# Altium footprint library Posadochnye_mesta.pcblib: 20 footprints (part 2 of 2)
Each footprint in its own frame and in the unit in brackets; x right, y up, seen from the top. Pads: shape width x height; smd on the part's side, far side on the other; paste and mask are expansions set on the pad; w line width, h text height; cw(c..) or ccw(c..) is an arc to the next point about the centre after c.
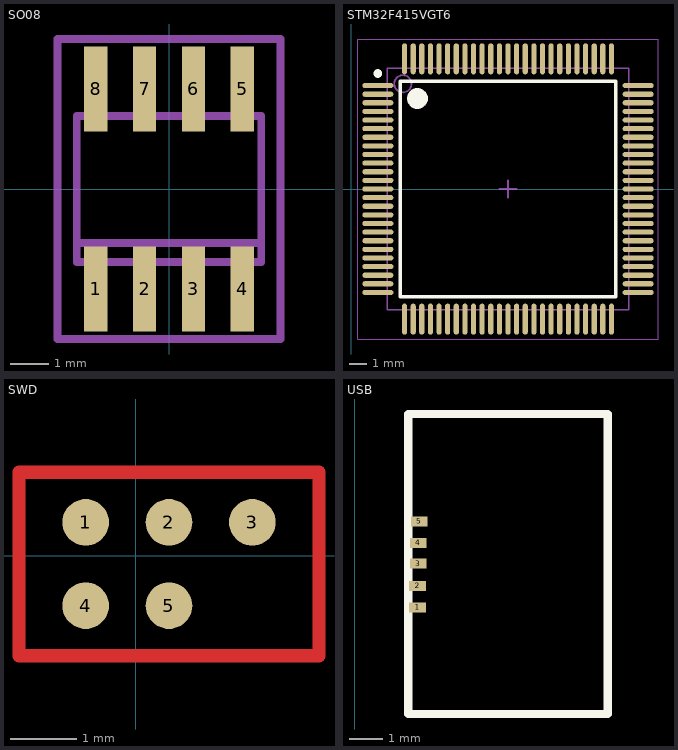
[diagram p1: the footprints below, top view; thin cyan lines are the x and y axes]

## SO08 [mm]
pads (8):
  rect 0.6x2.2 smd: 1(-1.905,-2.6) 2(-0.635,-2.6) 3(0.635,-2.6) 4(1.905,-2.6) 5(1.905,2.6) 6(0.635,2.6) 7(-0.635,2.6) 8(-1.905,2.6)
Mechanical 13:
  region: -1.66,2.001 -2.151,2.001 -2.151,3.1 -1.66,3.1
  region: -0.39,2.002 -0.881,2.002 -0.881,3.1 -0.39,3.1
  region: 0.88,2.001 0.39,2.001 0.39,3.1 0.88,3.1
  region: 2.15,2.002 1.662,2.002 1.662,3.1 2.15,3.1
  region: 2.15,-3.101 1.66,-3.101 1.66,-2 2.15,-2
  region: 0.88,-3.106 0.391,-3.106 0.391,-2 0.88,-2
  region: -0.39,-3.101 -0.88,-3.101 -0.88,-2 -0.39,-2
  region: -1.66,-3.102 -2.151,-3.102 -2.151,-2 -1.66,-2
  lines w0.203: -2.4,-1.4 2.4,-1.4 ; -2.4,-1.4 -2.4,1.9 2.4,1.9 2.4,-1.4 ; -2.4,-1.4 -2.4,-1.9 2.4,-1.9 2.4,-1.4
Mechanical 15:
  lines w0.2: -2.9,-3.9 -2.9,3.9 2.9,3.9 2.9,-3.9 -2.9,-3.9

## STM32F415VGT6 [mm]
pads (100):
  oval 1.8x0.3 smd: 1(1.534,6.009) 2(1.534,5.509) 3(1.534,5.009) 4(1.534,4.509) 5(1.534,4.009) 6(1.534,3.509) 7(1.534,3.009) 8(1.534,2.509) 9(1.534,2.009) 10(1.534,1.509) 11(1.534,1.009) 12(1.534,0.509) 13(1.534,0.009) 14(1.534,-0.491) 15(1.534,-0.991) 16(1.534,-1.491) 17(1.534,-1.991) 18(1.534,-2.491) 19(1.534,-2.991) 20(1.534,-3.491) 21(1.534,-3.991) 22(1.534,-4.491) 23(1.534,-4.991) 24(1.534,-5.491) 25(1.534,-5.991) 51(16.634,-5.991) 52(16.634,-5.491) 53(16.634,-4.991) 54(16.634,-4.491) 55(16.634,-3.991) 56(16.634,-3.491) 57(16.634,-2.991) 58(16.634,-2.491) 59(16.634,-1.991) 60(16.634,-1.491) 61(16.634,-0.991) 62(16.634,-0.491) 63(16.634,0.009) 64(16.634,0.509) 65(16.634,1.009) 66(16.634,1.509) 67(16.634,2.009) 68(16.634,2.509) 69(16.634,3.009) 70(16.634,3.509) 71(16.634,4.009) 72(16.634,4.509) 73(16.634,5.009) 74(16.634,5.509) 75(16.634,6.009)
  oval 0.3x1.8 smd: 26(3.084,-7.541) 27(3.584,-7.541) 28(4.084,-7.541) 29(4.584,-7.541) 30(5.084,-7.541) 31(5.584,-7.541) 32(6.084,-7.541) 33(6.584,-7.541) 34(7.084,-7.541) 35(7.584,-7.541) 36(8.084,-7.541) 37(8.584,-7.541) 38(9.084,-7.541) 39(9.584,-7.541) 40(10.084,-7.541) 41(10.584,-7.541) 42(11.084,-7.541) 43(11.584,-7.541) 44(12.084,-7.541) 45(12.584,-7.541) 46(13.084,-7.541) 47(13.584,-7.541) 48(14.084,-7.541) 49(14.584,-7.541) 50(15.084,-7.541) 76(15.084,7.559) 77(14.584,7.559) 78(14.084,7.559) 79(13.584,7.559) 80(13.084,7.559) 81(12.584,7.559) 82(12.084,7.559) 83(11.584,7.559) 84(11.084,7.559) 85(10.584,7.559) 86(10.084,7.559) 87(9.584,7.559) 88(9.084,7.559) 89(8.584,7.559) 90(8.084,7.559) 91(7.584,7.559) 92(7.084,7.559) 93(6.584,7.559) 94(6.084,7.559) 95(5.584,7.559) 96(5.084,7.559) 97(4.584,7.559) 98(4.084,7.559) 99(3.584,7.559) 100(3.084,7.559)
Top Overlay:
  circle w0.25: c1.534,6.709 r0.125
  circle w0.6: c3.834,5.259 r0.3
  lines w0.2: 2.834,-6.241 2.834,6.259 15.334,6.259 15.334,-6.241 2.834,-6.241
Mechanical 13:
  circle w0.1: c2.984,6.109 r0.5
  lines w0.1: 2.084,-6.991 2.084,7.009 16.084,7.009 16.084,-6.991 2.084,-6.991
Mechanical 15:
  lines w0.05: 0.384,-8.691 0.384,8.709 17.784,8.709 17.784,-8.691 0.384,-8.691
  lines w0.1: 8.584,0.009 9.584,0.009 ; 9.084,-0.491 9.084,0.509
3D body "User Library-LQFP100.step": height 1.6, standoff 0, extent 1.084,-7.991 17.084,8.009

## SWD [mm]
pads (5):
  round 0.7 smd: 1(-0.75,0.5) 2(0.5,0.5) 3(1.75,0.5) 4(-0.75,-0.75) 5(0.5,-0.75)
Top Layer:
  lines w0.2: -1.75,-1.5 -1.75,-1.25 -1.75,1.25 2.75,1.25 2.75,-1.5 -1.75,-1.5

## USB [mm]
pads (5):
  rect 0.5x0.3 smd: 1(1.9,-11.55) 2(1.9,-10.9) 3(1.925,-10.225) 4(1.925,-9.6) 5(1.95,-8.95)
Top Overlay:
  lines w0.254: 1.625,-14.775 7.65,-14.775 7.65,-12.456 7.65,-7.919 7.65,-5.7 1.625,-5.7 1.625,-14.775
3D body "48284.stp": height 2.71, standoff -0.23, extent 1.75,-14.65 7.481,-5.85